# EAGLE library part 143501185110 (library WL-OCHS)
WL-OCHS SOP-8 Characteristics Very high transmission speed - MHz to Mbit/s range Precise shifting without much delay thanks to fast switching times High insulation voltage VISO = 3750 & 5000 VRMS High immunity to interference (EMC) Applications High-speed digital signal transmission Interface isolation (e.g., UART, SPI, RS-232, RS-485) Switching power supplies and power electronics Industrial controls and automation Microcontroller and embedded systems Details see: www.we-online.com/en/components/products/WL-OCHS-SOP-8 Created by Ella 2026-08-06 2026(C) Würth Elektronik
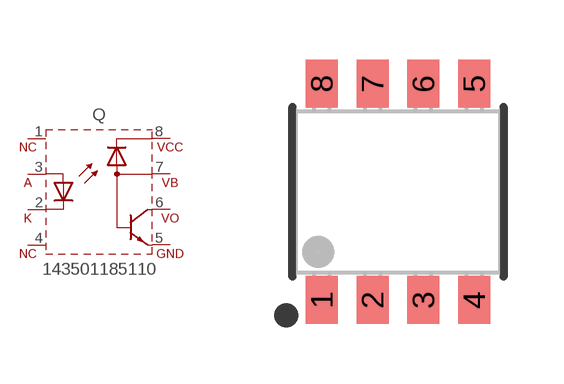
[diagram p0: symbol with the pads of WL-OCHS_SOP8-SL-TYPE; footprint WL-OCHS_SOP8-SL-TYPE]

Designator prefix Q

## 143501185110 (CATEGORY: Optocoupler; CMTILH: 5 kV/µsmA; DATASHEET: https://www.we-online.com/redexpert/spec/143501185110?ae; HEIGHT: 3.18mm; LENGTH: 4.05mm; MANUFACTURER: Würth Elektronik; MOUNT: SMT; MPN: 143501185110; OPERATING-TEMPERATURE: -40 °C up to +110 °C; PACKAGE-TYPE: SOP8; TPLH: 150 nsV; VALUE: 143501185110; VISO: 3750 V (RMS); WIDTH: 5.08mm)  [WL-OCHS_SOP8-SL-TYPE]
1  1  pas
2  2  pas
3  3  pas
4  4  pas
5  5  pas
6  6  pas
7  7  pas
8  8  pas

## Footprint WL-OCHS_SOP8-SL-TYPE (pad centres in mm)
WL-OCHS Optocoupler High Speed Size: SOP-8 SL-Type, SMT, 8pins LXWXH=4.05X5.08X3.18mm
smd 0.8 x 1.2: 1 -1.905,-2.705; 2 -0.635,-2.705; 3 0.635,-2.705; 4 1.905,-2.705; 5 1.905,2.705; 6 0.635,2.705; 7 -0.635,2.705; 8 -1.905,2.705